# Altium schematic symbol library AD8145.SchLib: 1 symbol
Pins are listed as number, name and electrical type; pins without a type are passive.

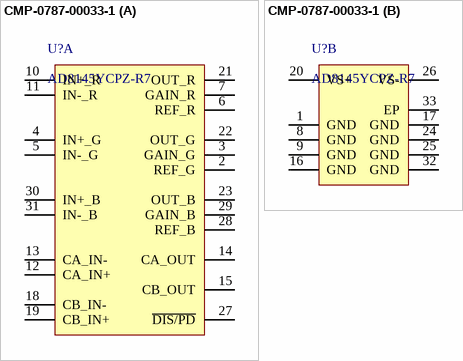
[diagram p0: symbol CMP-0787-00033-1]

## CMP-0787-00033-1
designator U?, comment AD8145YCPZ-R7
High Speed, Triple Differential Receiver with Comparator, 4.5 to 11 V Supply, 500 MHz Bandwidth, Industrial, 32-pin QFN (CP-32-3), Reel; Manufacturer: Analog Devices; -3dB Bandwidth: 500MHz, 425MHz; Max Pos Supply: 11V, 11V; Minimum Gain (Acl): 1; Slew Rate (V/us): 2100, 2000; 0.1 dB Flatness (MHz): 75, 53; Min Pos Supply: 4.5V, 4.5V; Packing: Reel; PartNumber: AD8145YCPZ-R7; ComponentLink1Description: Manufacturer URL; ComponentLink2Description: Datasheet; PackageReference: CP-32-3; ComponentLink3Description: Package Specification; PackageDescription: 32-Pin Lead Frame Chip Scale Package, Body 5 x 5 mm, Pitch 0.5 mm; ComponentLink4Description: URL Link1; ComponentLink1URL: http://www.analog.com/en/index.html; ComponentLink3URL: http://www.analog.com/static/imported-files/packages/32877413525511988CP_32_3.pdf; DatasheetVersion: Rev. A; Code_JEDEC: MO-220-VHHD-2; Mounting Technology: Surface Mount; ComponentLink2URL: http://www.analog.com/static/imported-files/data_sheets/AD8145.pdf; ComponentLink4URL: Product URL:http://www.analog.com/en/specialty-amplifiers/video-ampsbuffersfilters/ad8145/products/product.html; PackageVersion: Jan-05
footprint ADI-CP-32-3_M (QFN, 32-Leads, Body 5x5mm, Pitch 0.5mm, Thermal Pad 3.3x3.3mm, IPC Low Density)
footprint ADI-CP-32-3_N (QFN, 32-Leads, Body 5x5mm, Pitch 0.5mm, Thermal Pad 3.3x3.3mm, IPC Medium Density)
footprint ADI-CP-32-3_L (QFN, 32-Leads, Body 5x5mm, Pitch 0.5mm, Thermal Pad 3.3x3.3mm, IPC High Density)
part A pins: 2 REF_G "Reference Input, Green Channel.", 3 GAIN_G "Gain Connection, Green Channel.", 4 IN+_G "Noninverting Input, Green Channel.", 5 IN-_G "Inverting Input, Green Channel.", 6 REF_R "Reference Input, Red Channel.", 7 GAIN_R "Gain Connection, Red Channel.", 10 IN+_R "Noninverting Input, Red Channel.", 11 IN-_R "Inverting Input, Red Channel.", 12 CA_IN+ "Positive Input, Comparator A.", 13 CA_IN- "Negative Input, Comparator A.", 14 CA_OUT "Output, Comparator A.", 15 CB_OUT "Output, Comparator B.", 18 CB_IN- "Negative Input, Comparator B.", 19 CB_IN+ "Positive Input, Comparator B.", 21 OUT_R "Output, Red Channel.", 22 OUT_G "Output, Green Channel.", 23 OUT_B "Output, Blue Channel.", 27 ~{DIS/PD} "Disable/Power Down.", 28 REF_B "Reference Input, Blue Channel.", 29 GAIN_B "Gain Connection, Blue Channel.", 30 IN+_B "Noninverting Input, Blue Channel.", 31 IN-_B "Inverting Input, Blue Channel."
part B pins: 1 GND (power) "Signal Ground and Thermal Plane Connection. (See the Absolute Maximum Ratings section.)", 8 GND (power) "Signal Ground and Thermal Plane Connection. (See the Absolute Maximum Ratings section.)", 9 GND (power) "Signal Ground and Thermal Plane Connection. (See the Absolute Maximum Ratings section.)", 16 GND (power) "Signal Ground and Thermal Plane Connection. (See the Absolute Maximum Ratings section.)", 17 GND (power) "Signal Ground and Thermal Plane Connection. (See the Absolute Maximum Ratings section.)", 20 VS+ (power) "Positive Power Supply.", 24 GND (power) "Signal Ground and Thermal Plane Connection. (See the Absolute Maximum Ratings section.)", 25 GND (power) "Signal Ground and Thermal Plane Connection. (See the Absolute Maximum Ratings section.)", 26 VS- (power) "Negative Power Supply.", 32 GND (power) "Signal Ground and Thermal Plane Connection. (See the Absolute Maximum Ratings section.)", 33 EP (power) "Signal Ground and Thermal Plane Connection."